# Altium schematic symbol library 5V_boost.SchLib: 1 symbol
Pins are listed as number, name and electrical type; pins without a type are passive.

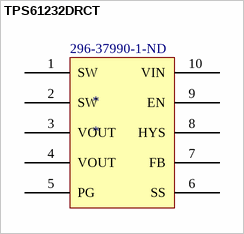
[diagram p0: symbol TPS61232DRCT]

## TPS61232DRCT
designator *  Supplier Part Number 1: 296-37990-1-ND
Manufacturer: Texas Instruments; Manufacturer Part Number: TPS61232DRCT; Min Input Voltage: 2.3V; Max Input Voltage: 5.5V; Output Current: 2.1A; Number of Outputs: 1; Output Voltage: 5V; Efficiency: 96%; Switching Frequency: 2MHz; Quiescent Current: 35uA; Topology: Boost; Output Type: Fixed; Synchronous Rectifier: Yes; Output Configuration: Positive; Supplier 1: Digi-Key; RoHS: Yes; Stock 1: 5502; Pricing 1: 1 = 2.92000, 10 = 2.62600, 100 = 2.11050 (USD); Mount: Surface Mount; Number of Pins: 10; Weight: 0.000921oz; Contact Plating: Gold; Min Operating Temperature: -40°C; Max Operating Temperature: 85°C; Max Output Current: 2.1A; Operating Supply Voltage: 5.5V; Nominal Output Voltage: 5V; Packaging: Tape and Reel; Min Output Voltage: 5V; Operating Supply Current: 35uA; Package Quantity: 250; Min Supply Voltage: 2.3V; Lead Free: Lead Free; REACH SVHC: No SVHC; ComponentLink1URL: http://www.farnell.com/datasheets/1902710.pdf?src-supplier=Element14; ComponentLink1Description: http://www.farnell.com/datasheets/1902710.pdf?src-supplier=Element14
footprint *SON50P300X300X100-10N
pins: 1 SW, 2 SW, 3 VOUT, 4 VOUT, 5 PG, 6 SS, 7 FB, 8 HYS, 9 EN, 10 VIN